# EAGLE library part H11_PHOTOFET (library ModernDevice#1)
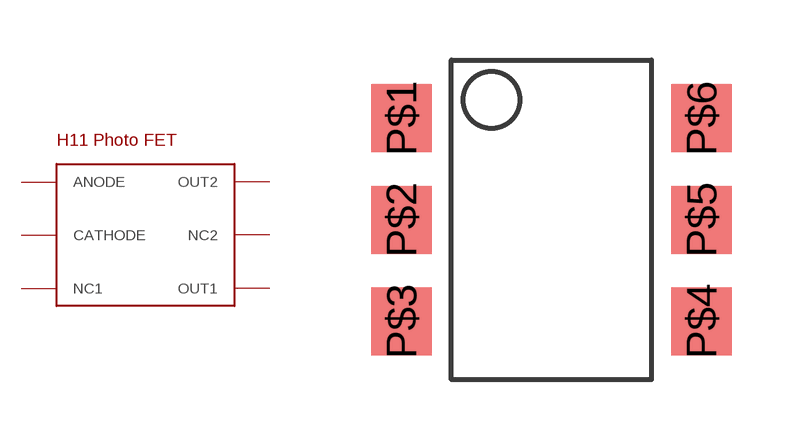
[diagram p78: symbol with the pads of DIL06; footprint DIL06]

Designator prefix -

## H11_PHOTOFETDIL06  [DIL06]
P$1  ANODE
P$2  CATHODE
P$3  NC1
P$4  OUT1
P$5  NC2
P$6  OUT2

## Footprint DIL06 (pad centres in mm)
smd 1.52 x 1.7: P$1 -3.75,2.54; P$2 -3.75,0; P$3 -3.75,-2.54; P$4 3.75,-2.54; P$5 3.75,0; P$6 3.75,2.54